# Altium footprint library Seeed-OPL-sensor.PCBLIB: 57 footprints (part 4 of 4)
Each footprint in its own frame and in the unit in brackets; x right, y up, seen from the top. Pads: shape width x height; smd on the part's side, far side on the other; paste and mask are expansions set on the pad; w line width, h text height; cw(c..) or ccw(c..) is an arc to the next point about the centre after c.
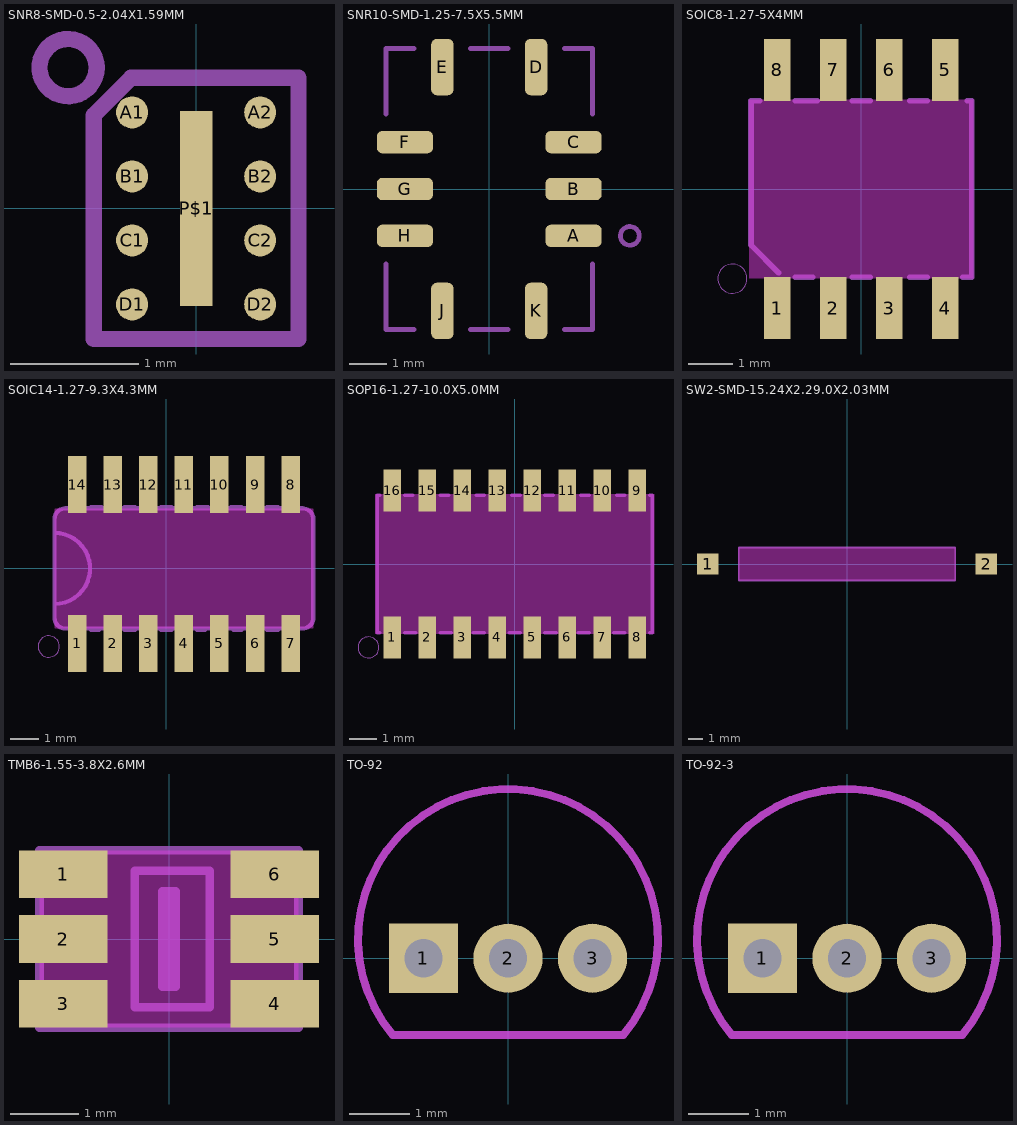
[diagram p3: the footprints below, top view; thin cyan lines are the x and y axes]

## SNR8-SMD-0.5-2.04X1.59MM [mil]
pads (9):
  rrect100% 9.84x9.84 smd: A1(-19.69,29.53) A2(19.69,29.53) B1(-19.69,9.84) B2(19.69,9.84) C1(-19.69,-9.84) C2(19.69,-9.84) D1(-19.69,-29.53) D2(19.69,-29.53)
  rect 10x60 smd: P$1(0,0)
Mechanical 2:
  circle w5: c-39.37,43.31 r8.8
  lines w5: -31.5,-40.16 -31.5,28.66 -20,40.16 31.5,40.16 31.5,-40.16 -31.5,-40.16

## SNR10-SMD-1.25-7.5X5.5MM [mm]
pads (10):
  rrect50% 1.5x0.6 smd: A(2.25,-1.25) B(2.25,0) C(2.25,1.25) F(-2.25,1.25) G(-2.25,0) H(-2.25,-1.25)
  rrect50% 0.6x1.5 smd: D(1.25,3.25) E(-1.25,3.25) J(-1.25,-3.25) K(1.25,-3.25)
Mechanical 2:
  circle w0.127: c3.75,-1.25 r0.25
  lines w0.127: -2.75,-2 -2.75,-3.75 -2,-3.75 ; -2.75,2 -2.75,3.75 -2,3.75 ; -0.5,-3.75 0.5,-3.75 ; -0.5,3.75 0.5,3.75 ; 2,-3.75 2.75,-3.75 2.75,-2 ; 2,3.75 2.75,3.75 2.75,2

## SOIC8-1.27-5X4MM [mm]
pads (8):
  rect 0.6x1.4 smd: 1(-1.905,-2.7) 2(-0.635,-2.7) 3(0.635,-2.7) 4(1.905,-2.7) 5(1.905,2.7) 6(0.635,2.7) 7(-0.635,2.7) 8(-1.905,2.7)
Keep-Out Layer:
  rectangle: -2.54,-2.032 2.54,2.032
Mechanical 2:
  circle w0: c-2.921,-2.032 r0.33
  lines w0.127: -2.3,2 -2.5,2 -2.5,-1.269 -1.869,-1.9 ; -1.5,-2 -1.1,-2 ; -1.5,2 -1,2 ; -0.2,-2 0.2,-2 ; -0.2,2 0.2,2 ; 1.1,-2 1.5,-2 ; 1.1,2 1.5,2 ; 2.3,-2 2.5,-2 2.5,2 2.4,2

## SOIC14-1.27-9.3X4.3MM [mil]
pads (14):
  rect 26x80 smd: 1(-125,-105.5) 2(-75,-105.5) 3(-25,-105.5) 4(25,-105.5) 5(75,-105.5) 6(125,-105.5) 7(175,-105.5) 8(175,118) 9(125,118) 10(75,118) 11(25,118) 12(-25,118) 13(-75,118) 14(-125,118)
Keep-Out Layer:
  rectangle: -157,-84.5 207,84.5
Mechanical 2:
  circle w0: c-165.16,-109.84 r15
  rectangle: -135,-89.5 -115,-84.5
  rectangle: -135,-89.5 -115,-84.5
  rectangle: -85,-89.5 -65,-84.5
  rectangle: -35,-89.5 -15,-84.5
  rectangle: 15,-89.5 35,-84.5
  rectangle: 65,-89.5 85,-84.5
  rectangle: 115,-89.5 135,-84.5
  rectangle: 165,-89.5 185,-84.5
  rectangle: -135,84.5 -115,89.5
  rectangle: -135,84.5 -115,89.5
  rectangle: -85,84.5 -65,89.5
  rectangle: -35,84.5 -15,89.5
  rectangle: 15,84.5 35,89.5
  rectangle: 65,84.5 85,89.5
  rectangle: 115,84.5 135,89.5
  rectangle: 165,84.5 185,89.5
  lines w5: -106.3,-86.61 -94.49,-86.61 ; -106.3,86.61 -90.55,86.61 ; -59.06,-86.61 -43.31,-86.61 ; -59.06,86.61 -43.31,86.61 ; -7.87,-86.61 7.87,-86.61 ; -7.87,86.61 7.87,86.61 ; 43.31,-86.61 55.12,-86.61 ; 43.31,86.61 59.06,86.61 ; 90.55,86.61 106.3,86.61 ; 94.49,-86.61 106.3,-86.61 ; 141.73,-86.61 157.48,-86.61 ; 141.73,86.61 157.48,86.61
  lines w6: -142,-84.5 cw(c-142,-69.5) -157,-69.5 -157,-50 ; -142,84.5 ccw(c-142,69.5) -157,69.5 -157,50 ; 192,-84.5 ccw(c192,-69.5) 207,-69.5 207,69.5 ccw(c192,69.5) 192,84.5 ; -157,-50 -157,50 ; -157,-50 ccw(c-157,0) -157,50
Mechanical 18:
  rectangle: -135,-135 -115,-77
  rectangle: -85,-135 -65,-77
  rectangle: -35,-135 -15,-77
  rectangle: 15,-135 35,-77
  rectangle: 65,-135 85,-77
  rectangle: 115,-135 135,-77
  rectangle: 165,-135 185,-77
  rectangle: -135,89.5 -115,147.5
  rectangle: -85,89.5 -65,147.5
  rectangle: -35,89.5 -15,147.5
  rectangle: 15,89.5 35,147.5
  rectangle: 65,89.5 85,147.5
  rectangle: 115,89.5 135,147.5
  rectangle: 165,89.5 185,147.5
  lines w6: -142,-84.5 192,-84.5 ; -142,84.5 192,84.5

## SOP16-1.27-10.0X5.0MM [mil]
pads (16):
  rect 25x60 smd: 1(-175,-105) 2(-125,-105) 3(-75,-105) 4(-25,-105) 5(25,-105) 6(75,-105) 7(125,-105) 8(175,-105) 9(175,105) 10(125,105) 11(75,105) 12(25,105) 13(-25,105) 14(-75,105) 15(-125,105) 16(-175,105)
Keep-Out Layer:
  rectangle: -200,-100 200,100
Mechanical 2:
  circle w0: c-209.25,-119.37 r15
  lines w5: -196.85,-70.87 -196.85,-98.43 -192.91,-98.43 ; -196.85,-70 -196.85,70 ; -196.85,70.87 -196.85,98.43 -192.91,98.43 ; -157.48,-98.43 -141.73,-98.43 ; -157.48,98.43 -145.67,98.43 ; -106.3,-98.43 -90.55,-98.43 ; -106.3,98.43 -94.49,98.43 ; -59.06,-98.43 -43.31,-98.43 ; -55.12,98.43 -43.31,98.43 ; -7.87,-98.43 7.87,-98.43 ; -3.94,98.43 7.87,98.43 ; 43.31,-98.43 59.06,-98.43 ; 43.31,98.43 55.12,98.43 ; 90.55,-98.43 106.3,-98.43 ; 94.49,98.43 106.3,98.43 ; 141.73,-98.43 157.48,-98.43 ; 145.67,98.43 157.48,98.43 ; 192.91,-98.43 196.85,-98.43 196.85,-70.87 ; 192.91,98.43 196.85,98.43 196.85,70.87 ; 196.85,-70 196.85,70

## SW2-SMD-15.24X2.29.0X2.03MM [mm]
pads (2):
  rect 1.5x1.5 smd: 1(-9.8,0) 2(9.8,0)
Keep-Out Layer:
  rectangle: -7.62,-1.143 7.62,1.143
Mechanical 2:
  lines w0.127: -7.62,-1.15 7.62,-1.15 7.62,1.15 -7.62,1.15 -7.62,-1.15

## TMB6-1.55-3.8X2.6MM [mm]
pads (6):
  rect 1.3x0.7 smd: 1(-1.55,0.95) 2(-1.55,0) 3(-1.55,-0.95) 4(1.55,-0.95) 5(1.55,0) 6(1.55,0.95)
Keep-Out Layer:
  rectangle: -1.9,-1.3 1.9,1.3
Mechanical 2:
  lines w0.127: -0.8,-1.3 0.8,-1.3 ; -0.8,1.3 0.8,1.3
Mechanical 6:
  rectangle: -0.1,-0.7 0.1,0.7
  lines w0.127: -0.5,-1 0.6,-1 0.6,1 -0.5,1 -0.5,-1 ; -0.1,-0.7 0.1,-0.7 0.1,0.7 -0.1,0.7 -0.1,-0.7
Mechanical 18:
  lines w0.127: -1.9,-1.3 1.9,-1.3 1.9,-1.1 cw(c1.9,-0.9) 1.7,-0.9 cw(c1.9,-0.9) 1.9,-0.7 1.9,-0.2 cw(c1.9,0) 1.7,0 cw(c1.9,0) 1.9,0.2 1.9,0.7 cw(c1.9,0.9) 1.7,0.9 cw(c1.9,0.9) 1.9,1.1 1.9,1.3 -1.9,1.3 ; -1.9,-1.3 -1.9,-1.1 ; -1.9,-1.3 -1.9,-1.1 ; -1.9,-1.3 -1.9,-1.1 ; -1.9,-1.1 ccw(c-1.9,-0.9) -1.7,-0.9 ccw(c-1.9,-0.9) -1.9,-0.7 ; -1.9,-0.7 -1.9,-0.2 ; -1.9,-0.7 -1.9,-0.2 ; -1.9,-0.7 -1.9,-0.2 ; -1.9,-0.2 ccw(c-1.9,0) -1.7,0 ccw(c-1.9,0) -1.9,0.2 ; -1.9,0.2 -1.9,0.7 ; -1.9,0.2 -1.9,0.7 ; -1.9,0.2 -1.9,0.7 ; -1.9,0.7 ccw(c-1.9,0.9) -1.7,0.9 ccw(c-1.9,0.9) -1.9,1.1 ; -1.9,1.1 -1.9,1.3 ; -1.9,1.1 -1.9,1.3 ; -1.9,1.1 -1.9,1.3

## TO-92 [mil]
pads (3):
  rect 45x45 hole 25: 1(-55,0)
  round 45 hole 25: 2(0,0) 3(55,0)
Keep-Out Layer:
  lines w5: -75,-50 cw(c0,12.5) 75,-50 -75,-50
Mechanical 2:
  lines w5: -75,-50 cw(c0,12.5) 75,-50 -75,-50

## TO-92-3 [mil]
pads (3):
  rect 45x45 hole 25: 1(-55,0)
  round 45 hole 25: 2(0,0) 3(55,0)
Keep-Out Layer:
  lines w5: -75,-50 cw(c0,12.5) 75,-50 -75,-50
Mechanical 2:
  lines w5: -75,-50 cw(c0,12.5) 75,-50 -75,-50